# EAGLE library part RESISTOR-4 (library CougsInSpace)
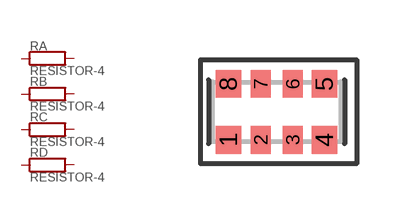
[diagram p19: symbol with the pads of 1632; footprint 1632]

Designator prefix R; gates A=RESISTOR B=RESISTOR C=RESISTOR D=RESISTOR

## RESISTOR-41632  [1632]
1  A:1  pas
2  B:1  pas
3  C:1  pas
4  D:1  pas
5  D:2  pas
6  C:2  pas
7  B:2  pas
8  A:2  pas

## Footprint 1632 (pad centres in mm)
smd 0.64 x 0.7: 1 -1.2,-0.7; 4 1.2,-0.7; 5 1.2,0.7; 8 -1.2,0.7
smd 0.5 x 0.7: 2 -0.4,-0.7; 3 0.4,-0.7; 6 0.4,0.7; 7 -0.4,0.7